# Altium schematic symbol library RC0603FR-102ML.SchLib: 1 symbol
Pins are listed as number, name and electrical type; pins without a type are passive.

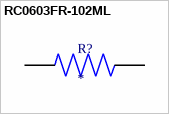
[diagram p0: symbol RC0603FR-102ML]

## RC0603FR-102ML
designator R?
MP: RC0603FR-102ML; Package: None; Price: None; Value: *; Availability: Unavailable
footprint RESC1608X55N
pins: 1, 2